# Altium footprint library 无刷驱动-STC-无感-Lite3S.PcbLib: 18 footprints (part 2 of 2)
Each footprint in its own frame and in the unit in brackets; x right, y up, seen from the top. Pads: shape width x height; smd on the part's side, far side on the other; paste and mask are expansions set on the pad; w line width, h text height; cw(c..) or ccw(c..) is an arc to the next point about the centre after c.
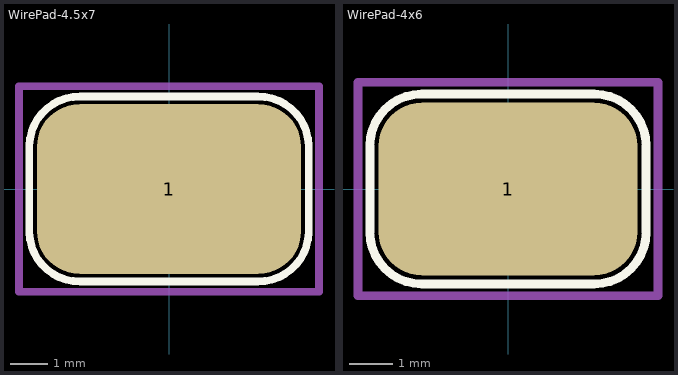
[diagram p1: the footprints below, top view; thin cyan lines are the x and y axes]

## WirePad-4.5x7 [mm] "焊线盘 表贴 4mm x 6mm"
pads (1):
  rrect50% 7x4.5 smd: 1(0,0)
Top Overlay:
  lines w0.203: -3.7,-1.15 ccw(c-2.375,-1.125) -2.35,-2.45 2.35,-2.45 ccw(c2.375,-1.125) 3.7,-1.15 3.7,1.15 ccw(c2.375,1.125) 2.35,2.45 -2.35,2.45 ccw(c-2.375,1.125) -3.7,1.15 -3.7,-1.15
Top Designator:
  text ".Designator" at -2.25,-0.226 h1
Top Component Outline:
  lines w0.2: -3.975,-2.725 3.975,-2.725 3.975,2.725 -3.975,2.725 -3.975,-2.725
Top Component Center:
  circle w0.1: c0,0 r0.5
  lines w0.1: -1,0 1,0 ; 0,-1 0,1

## WirePad-4x6 [mm] "焊线盘 表贴 4.5mm x 7mm"
pads (1):
  rrect50% 6x4 smd: 1(0,0)
Top Overlay:
  lines w0.203: -3.2,-1 ccw(c-2,-1) -2,-2.2 2,-2.2 ccw(c2,-1) 3.2,-1 3.2,1 ccw(c2,1) 2,2.2 -2,2.2 ccw(c-2,1) -3.2,1 -3.2,-1
Top Designator:
  text ".Designator" at -2.25,-0.226 h1
Top Component Outline:
  lines w0.2: -3.475,-2.475 3.475,-2.475 3.475,2.475 -3.475,2.475 -3.475,-2.475
Top Component Center:
  circle w0.1: c0,0 r0.5
  lines w0.1: -1,0 1,0 ; 0,-1 0,1